# Altium footprint library PT6WV.PcbLib: 1 footprints
Each footprint in its own frame and in the unit in brackets; x right, y up, seen from the top. Pads: shape width x height; smd on the part's side, far side on the other; paste and mask are expansions set on the pad; w line width, h text height; cw(c..) or ccw(c..) is an arc to the next point about the centre after c.
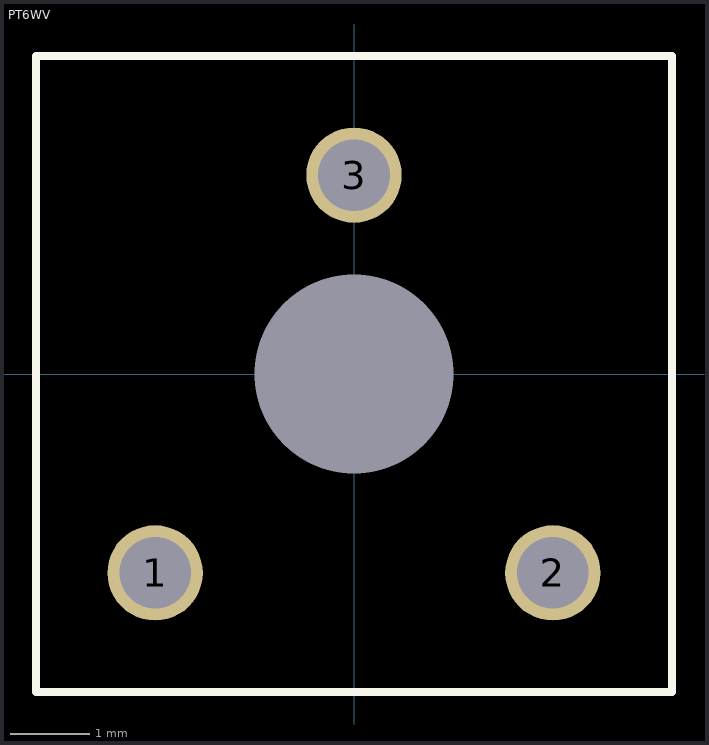
[diagram p0: the footprint, top view; thin cyan lines are the x and y axes]

## PT6WV [mm]
pads (4):
  round 0 hole 2.5 unplated: 0(0,0)
  round 1.2 hole 0.9: 1(-2.5,-2.5) 2(2.5,-2.5) 3(0,2.5)
Top Overlay:
  lines w0.1: -4,-4 4,-4 4,4 -4,4 -4,-4
3D body: height 4, standoff 0, extent -3.15,-3.147 3.15,3.147